# Altium schematic symbol library TMC2160_BOB_V1_0.SchLib: 13 symbols
Pins are listed as number, name and electrical type; pins without a type are passive.

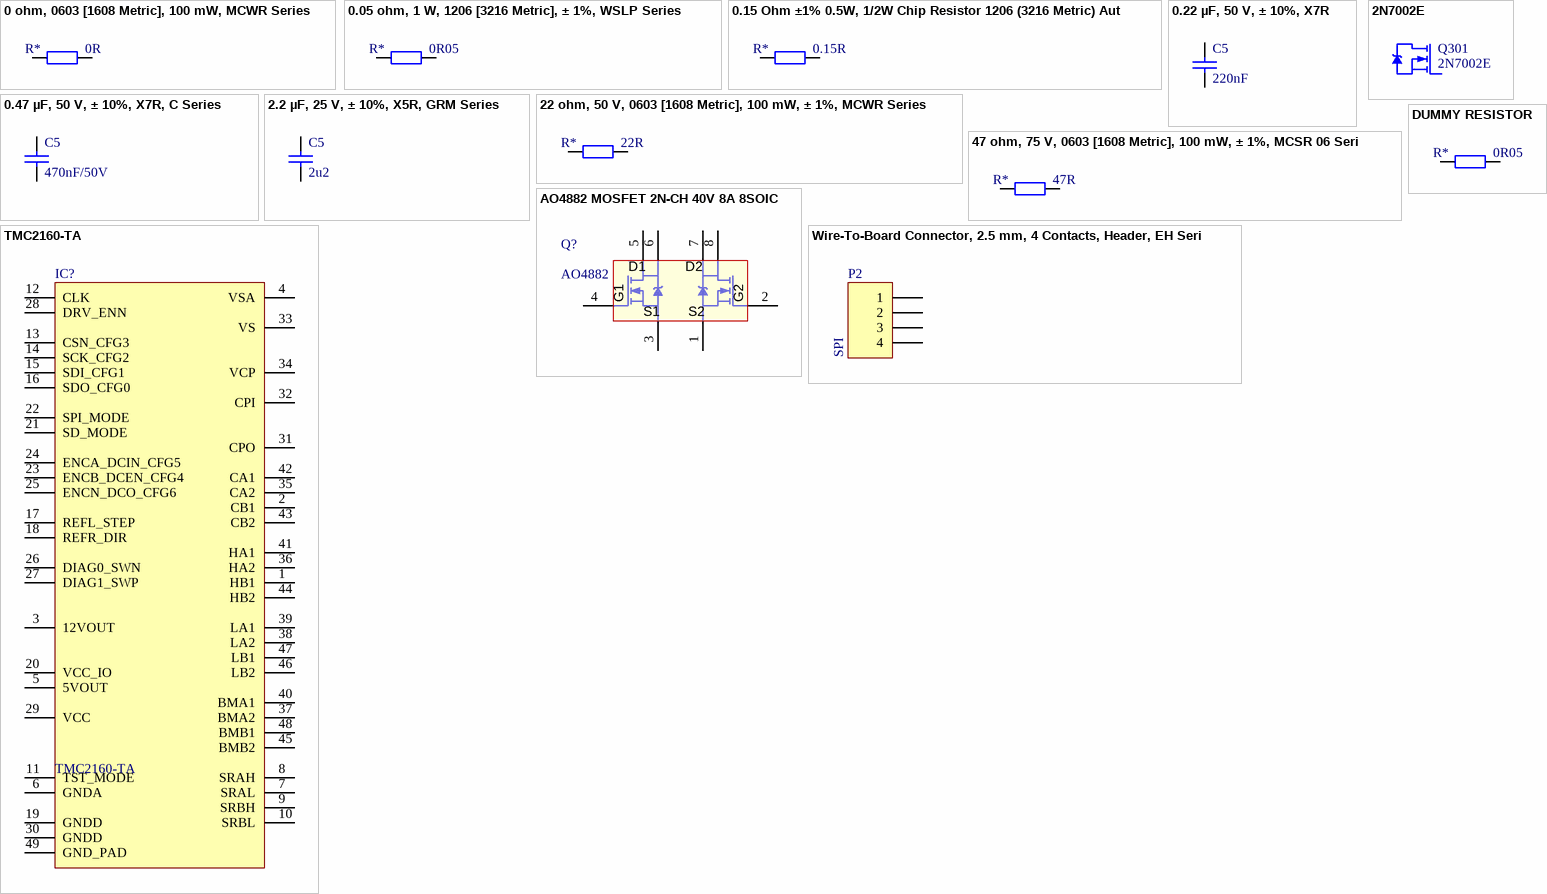
[diagram p0: symbols 0 ohm, 0603 [1608 Metric], 100 mW, MCWR Series to Wire-To-Board Connector, 2.5 mm, 4 Contacts, Header, EH Series, Through Hole, 1 Rows]

## 0 ohm, 0603 [1608 Metric], 100 mW, MCWR Series
designator R*, comment 0R
SMD Chip Resistor, Thick Film, 0 ohm, 0603 [1608 Metric], 100 mW, MCWR Series; MPN: MCWR06X000 PTL; Temp coefficient: *ppm; PowerRating: 100mW; MF: MULTICOMP; Manufacturer: *; ComponentLinknURL: *; Resistance: 0R
footprint R0402 (0402 resistor)
footprint R0603 (0603 resistor)
footprint R0805 (0805 resistor)
footprint R1206 (1206 resistor)
footprint R2512 (2512 resistor)
footprint R0201 (0201 resistor)
footprint R1210 (1210 resistor)
footprint R1812 (1812 resistor)
footprint R2010 (2010 resistor)
footprint R2512 (2512 resistor)
pins: 1, 2

## 0.05 ohm, 1 W, 1206 [3216 Metric], ± 1%, WSLP Series
designator R*, comment Resistance: 0R05  (hidden comment: 0R05 / 1W / 1%)
SMD Current Sense Resistor, 0.05 ohm, 1 W, 1206 [3216 Metric], ± 1%, WSLP Series; MPN: WSLP1206R0500FEA; Temp coefficient: *ppm; MF: VISHAY; Precision: 1%; PowerRating: 1W; Manufacturer: *; ComponentLinknURL: *
footprint R0402 (0402 resistor)
footprint R0603 (0603 resistor)
footprint R0805 (0805 resistor)
footprint R1206 (1206 resistor)
footprint R2512 (2512 resistor)
footprint R0201 (0201 resistor)
footprint R1210 (1210 resistor)
footprint R1812 (1812 resistor)
footprint R2010 (2010 resistor)
footprint R2512 (2512 resistor)
pins: 1, 2

## 0.15 Ohm ±1% 0.5W, 1/2W Chip Resistor 1206 (3216 Metric) Automotive AEC-Q200, Current Sense Thick Film
designator R*, comment Resistance: 0.15R  (hidden comment: 0.15R / 0.5W / 1%)
0.15 Ohm ±1% 0.5W, 1/2W Chip Resistor 1206 (3216 Metric) Automotive AEC-Q200, Current Sense Thick Film; MPN: ERJ-8BSFR15V; Temp coefficient: *ppm; MF: Panasonic; Precision: 1%; PowerRating: 0.5W; Manufacturer: *; ComponentLinknURL: *
footprint R0402 (0402 resistor)
footprint R0603 (0603 resistor)
footprint R0805 (0805 resistor)
footprint R1206 (1206 resistor)
footprint R2512 (2512 resistor)
footprint R0201 (0201 resistor)
footprint R1210 (1210 resistor)
footprint R1812 (1812 resistor)
footprint R2010 (2010 resistor)
footprint R2512 (2512 resistor)
pins: 1, 2

## 0.22 µF, 50 V, ± 10%, X7R
designator C5, comment 220nF
SMD Multilayer Ceramic Capacitor, 0603 [1608 Metric], 0.22 µF, 50 V, ± 10%, X7R, GCM Series; MPN: GCM188R71H224KA64D; Type: MLCC; Voltage rating: 50V; ComponentLinknDescription: Datasheet; MF: MURATA; Characteristic: *; ComponentLinknURL: *; Capacitance: 220nF; Precision: 10%
footprint C0402 (0402 ceramic capacitor)
footprint C0603 (0603 ceramic capacitor)
footprint C0805 (0805 ceramic capacitor)
footprint C1206 (1206 ceramic capacitor)
footprint C1210 (1210 capacitor)
footprint C1812 (1812 capacitor)
pins: 1, 2

## 0.47 µF, 50 V, ± 10%, X7R, C Series
designator C5, comment 470nF/50V
SMD Multilayer Ceramic Capacitor, 0603 [1608 Metric], 0.47 µF, 50 V, ± 10%, X7R, C Series; MPN: C1608X7R1H474K080AC; Type: MLCC; VoltageRating: 50V; ComponentLinknDescription: Datasheet; MF: TDK; Capacitance: 470nF; Characteristic: *; ComponentLinknURL: *; Precision: 10%
footprint C0402 (0402 ceramic capacitor)
footprint C0603 (0603 ceramic capacitor)
footprint C0805 (0805 ceramic capacitor)
footprint C1206 (1206 ceramic capacitor)
footprint C1210 (1210 capacitor)
footprint C1812 (1812 capacitor)
pins: 1, 2

## 2.2 µF, 25 V, ± 10%, X5R, GRM Series
designator C5, comment 2u2
SMD Multilayer Ceramic Capacitor, 0603 [1608 Metric], 2.2 µF, 25 V, ± 10%, X5R, GRM Series; MPN: GRM188R61E225KA12D; Type: MLCC; Voltage rating: 50V; ComponentLinknDescription: Datasheet; MF: MURATA; Characteristic: *; ComponentLinknURL: *; Capacitance: 2u2; Precision: 10%
footprint C0402 (0402 ceramic capacitor)
footprint C0603 (0603 ceramic capacitor)
footprint C0805 (0805 ceramic capacitor)
footprint C1206 (1206 ceramic capacitor)
footprint C1210 (1210 capacitor)
footprint C1812 (1812 capacitor)
pins: 1, 2

## 2N7002E
designator Q301
N-MOSFET 60V 310mA
footprint SOT-23 (SOT23, 3-Leads, Body 2,90x2,45mm, Pitch 0,95mm)

## 22 ohm, 50 V, 0603 [1608 Metric], 100 mW, ± 1%, MCWR Series
designator R*, comment Resistance: 22R  (hidden comment: 22R / 100mW / 1%)
SMD Chip Resistor, Thick Film, 22 ohm, 50 V, 0603 [1608 Metric], 100 mW, ± 1%, MCWR Series; MPN: MCWR06X22R0FTLV; Temp coefficient: *ppm; MF: MULTICOMP; Precision: 1%; PowerRating: 100mW; Manufacturer: *; ComponentLinknURL: *
footprint R0402 (0402 resistor)
footprint R0603 (0603 resistor)
footprint R0805 (0805 resistor)
footprint R1206 (1206 resistor)
footprint R2512 (2512 resistor)
footprint R0201 (0201 resistor)
footprint R1210 (1210 resistor)
footprint R1812 (1812 resistor)
footprint R2010 (2010 resistor)
footprint R2512 (2512 resistor)
pins: 1, 2

## 47 ohm, 75 V, 0603 [1608 Metric], 100 mW, ± 1%, MCSR 06 Series
designator R*, comment Resistance: 47R  (hidden comment: 47R /  / 1%)
SMD Chip Resistor, Ceramic, 47 ohm, 75 V, 0603 [1608 Metric], 100 mW, ± 1%, MCSR 06 Series; MPN: MCSR06X47R0FTL; Temp coefficient: *ppm; MF: MULTICOMP; Precision: 1%; Manufacturer: *; ComponentLinknURL: *
footprint R0402 (0402 resistor)
footprint R0603 (0603 resistor)
footprint R0805 (0805 resistor)
footprint R1206 (1206 resistor)
footprint R2512 (2512 resistor)
footprint R0201 (0201 resistor)
footprint R1210 (1210 resistor)
footprint R1812 (1812 resistor)
footprint R2010 (2010 resistor)
footprint R2512 (2512 resistor)
pins: 1, 2

## AO4882 MOSFET 2N-CH 40V 8A 8SOIC
designator Q?, comment AO4882
Mosfet Array 2 N-Channel (Dual) 40V 8A 2W Surface Mount 8-SOIC; MF: Alpha & Omega Semiconductor Inc.; MPN: AO4882
footprint SOP127P600X170-8L (SOP, 8-Leads, Body 4,90x3,90mm, Pitch 1,27mm, IPC High Density)
pins: 1 S2, 2 G2, 3 S1, 4 G1, 5 D1, 6 D1, 7 D2, 8 D2

## DUMMY RESISTOR
designator R*, comment Resistance: 0R05  (hidden comment: 0R05 /  /)
Temp coefficient: *ppm; Manufacturer: *; ComponentLinknURL: *
footprint R0402 (0402 resistor)
footprint R0603 (0603 resistor)
footprint R0805 (0805 resistor)
footprint R1206 (1206 resistor)
footprint R2512 (2512 resistor)
footprint R0201 (0201 resistor)
footprint R1210 (1210 resistor)
footprint R1812 (1812 resistor)
footprint R2010 (2010 resistor)
footprint R2512 (2512 resistor)
pins: 1, 2

## TMC2160-TA
designator IC?
Manufacturer: TRINAMIC; Geometry.Height: 1,2mm; Distributor#1: Digikey; Distributor#2: *; MPN: TMC2160-TA; MF: TRINAMIC
footprint TMC5160_TSQFP50P900X900X120_HS-49L (TSQFP, 48-Leads, Body 7,00x7,00mm, Pitch 0,50mm, Thermal Pad 5,10x5,10mm, IPC High Density)
pins: 1 HB1, 2 CB1, 3 12VOUT, 4 VSA, 5 5VOUT, 6 GNDA, 7 SRAL, 8 SRAH, 9 SRBH, 10 SRBL, 11 TST_MODE, 12 CLK, 13 CSN_CFG3, 14 SCK_CFG2, 15 SDI_CFG1, 16 SDO_CFG0, 17 REFL_STEP, 18 REFR_DIR, 19 GNDD, 20 VCC_IO, 21 SD_MODE, 22 SPI_MODE, 23 ENCB_DCEN_CFG4, 24 ENCA_DCIN_CFG5, 25 ENCN_DCO_CFG6, 26 DIAG0_SWN, 27 DIAG1_SWP, 28 DRV_ENN, 29 VCC, 30 GNDD, 31 CPO, 32 CPI, 33 VS, 34 VCP, 35 CA2, 36 HA2, 37 BMA2, 38 LA2, 39 LA1, 40 BMA1, 41 HA1, 42 CA1, 43 CB2, 44 HB2, 45 BMB2, 46 LB2, 47 LB1, 48 BMB1, 49 GND_PAD

## Wire-To-Board Connector, 2.5 mm, 4 Contacts, Header, EH Series, Through Hole, 1 Rows
designator P2, comment SPI
Wire-To-Board Connector, 2.5 mm, 4 Contacts, Header, EH Series, Through Hole, 1 Rows; MPN: B4B-EH-A; MF: JST (JAPAN SOLDERLESS TERMINALS)
signal-integrity model Connector
footprint B4B-EH-A
pins: 1, 2, 3, 4